# Altium schematic symbol library LD1117V50.SchLib: 1 symbol
Pins are listed as number, name and electrical type; pins without a type are passive.

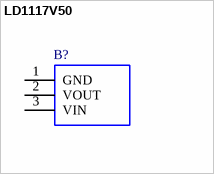
[diagram p0: symbol LD1117V50]

## LD1117V50
designator B?
LD1117V50, Low Dropout Voltage Regulator, 1.3A, 5 V +/-1%, 3-Pin TO-220; Manufacturer_Name: STMicroelectronics; Geometry.Height: 4.6mm; Mouser Part Number: 511-LD1117V50; Mouser Price/Stock: https://www.mouser.co.uk/ProductDetail/STMicroelectronics/LD1117V50?qs=arR7071Fstdq5MS%2FejBvyQ%3D%3D; Manufacturer_Part_Number: LD1117V50; Datasheet Link: http://www.st.com/web/en/resource/technical/document/datasheet/CD00000544.pdf
footprint TO270P460X1020X2008-3P
pins: 1 GND, 2 VOUT, 3 VIN